# EAGLE library part A4988SETTR-T (library A4988SETTR-T)
DMOS Microstepping Driver with Translator and Overcurrent Protection Check availability <https://pricing.snapeda.com/parts/A4988SETTR-T/Allegro/view-part?ref=eda>
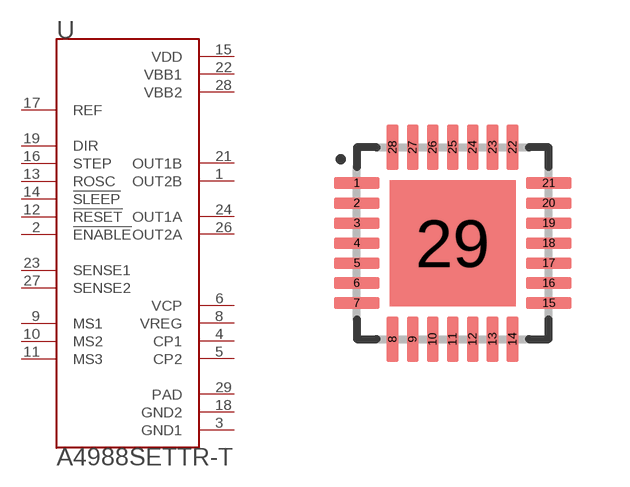
[diagram p0: symbol with the pads of QFN50P500X500X90-29N; footprint QFN50P500X500X90-29N]

Designator prefix U

## A4988SETTR-T (Availability: In Stock; Check_prices: https://www.snapeda.com/parts/A4988SETTR-T/Allegro+Industries/view-part/?ref=eda; Description: Bipolar Motor Driver DMOS Logic 28-QFN (5x5); MF: Allegro; MP: A4988SETTR-T; Package: QFN-28 Allegro MicroSystems LLC; Price: None; Purchase-URL: https://www.snapeda.com/api/url_track_click_mouser/?unipart_id=46276&manufacturer=Allegro&part_name=A4988SETTR-T&search_term=a4988settr-t; SnapEDA_Link: https://www.snapeda.com/parts/A4988SETTR-T/Allegro+Industries/view-part/?ref=snap)  [QFN50P500X500X90-29N]
1  OUT2B  out
2  !ENABLE  in
3  GND1  pas
4  CP1  pas
5  CP2  pas
6  VCP  pas
8  VREG  pas
9  MS1  in
10  MS2  in
11  MS3  in
12  !RESET  in
13  ROSC  in
14  !SLEEP  in
15  VDD  pwr
16  STEP  in
17  REF  in
18  GND2  pas
19  DIR  in
21  OUT1B  out
22  VBB1  pwr
23  SENSE1  in
24  OUT1A  out
26  OUT2A  out
27  SENSE2  in
28  VBB2  pwr
29  PAD  pas

## Footprint QFN50P500X500X90-29N (pad centres in mm)
smd 1.15 x 0.3: 1 -2.4,1.5; 2 -2.4,1; 3 -2.4,0.5; 4 -2.4,0; 5 -2.4,-0.5; 6 -2.4,-1; 7 -2.4,-1.5; 15 2.4,-1.5; 16 2.4,-1; 17 2.4,-0.5; 18 2.4,0; 19 2.4,0.5; 20 2.4,1; 21 2.4,1.5
smd 0.3 x 1.15: 8 -1.5,-2.4; 9 -1,-2.4; 10 -0.5,-2.4; 11 0,-2.4; 12 0.5,-2.4; 13 1,-2.4; 14 1.5,-2.4; 22 1.5,2.4; 23 1,2.4; 24 0.5,2.4; 25 0,2.4; 26 -0.5,2.4; 27 -1,2.4; 28 -1.5,2.4
smd 3.15 x 3.15: 29 0,0